# Altium schematic symbol library TestKitSchLib.SchLib: 7 symbols
Pins are listed as number, name and electrical type; pins without a type are passive.

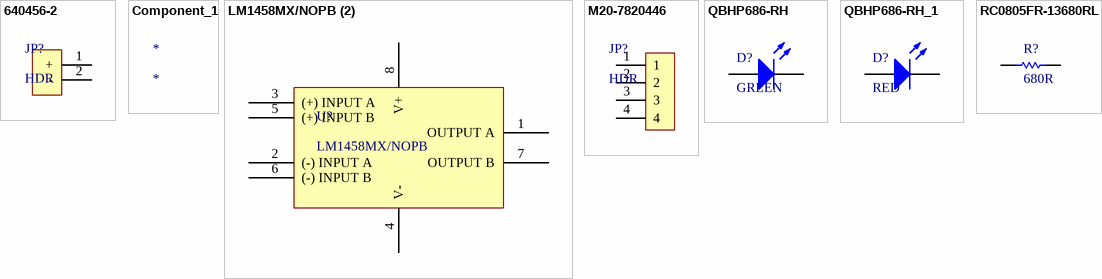
[diagram p0: symbols 640456-2 to RC0805FR-13680RL]

## 640456-2
designator JP?, comment HDR
Connector 250V AC/DC 5A 2P 1 Row PCB - Vertical Mounting Polyester White; Manufacturer 1: TE Connectivity; Manufacturer Part Number 1: 640456-2; Number of Contacts: 2; Gender: Male; Connector Type: Connector,Pin,Plug,Header; Contact Resistance: 6mR; Mating Alignment: No (Without); PCB Mount Retention: Without; Mating Connector Lock: Yes (With); Connector System: Wire-to-Board; Circuit Application: Signal; Contact Style: Straight; Pitch: 2.54mm; Contact Post Length: 3.56mm; PCB Thickness: 0.063inch; Tail Length: 0.14inch; Plating Thickness: 3.81um; Approvals: CSA; Supplier 1: Digi-Key; Stock 1: 94059; Pricing 1: 1=0,13000, 10=0,10100, 100=0,07480, 500=0,06188, 1000=0,05415, 5000=0,04641, 10000=0,04512 (USD); RoHS: Yes; Mount: Through Hole; Contact Plating: Tin; Contact Material: Copper Alloy; Housing Material: Polyester; Color: Natural,White,Beige; Housing Color: Natural; Contact Shape: Square; Min Operating Temperature: -67°C; Max Operating Temperature: 221°C; Orientation: Straight; Number of Rows: 1; Packaging: Bulk; Termination: Solder; Number of Positions: 2; Package Quantity: 5000; Series: MTA-100; Contact Type: Male Pin; Current Rating: 5A; Contact Gender: Male; Max Voltage Rating (AC): 250V; Voltage Rating: 250V; PCB Mounting Orientation: Vertical; Contact Current Rating: 5A; Fastening Type: Friction; Voltage Rating (AC): 250V; Strain Relief: No (Without); Working Voltage: 250V; Mating Retention: No (Without); PCB Mount Alignment: No (Without); Shrouded: No (Without); Number of Poles: 2; Backwall/Post Interruptions: No (Without); Contact Retention: No (Without); Panel Mount Retention: No (Without); Sealable: No (Without); Mounting Ears: No (Without); Length: 7.62mm; Height: 7.87mm; Contact Mating Length: 7.49mm; Depth: 5.72mm; Lead Pitch: 2.54mm; Radiation Hardening: No; RoHS Compliant: Yes; REACH SVHC: No SVHC; Lead Free: Lead Free; Flammability Rating: UL94 V-0; ELV: Compliant; ComponentLink1URL: https://datasheet.ciiva.com/709/eng-cd-640456-w1-709680.pdf?src-supplier=Digi-Key; ComponentLink1Description: https://datasheet.ciiva.com/709/eng-cd-640456-w1-709680.pdf?src-supplier=Digi-Key; ComponentLink2URL: https://datasheet.ciiva.com/3118/eng-ds-82056-mta-0608-3118497.pdf?src-supplier=Avnet; ComponentLink2Description: https://datasheet.ciiva.com/3118/eng-ds-82056-mta-0608-3118497.pdf?src-supplier=Avnet; ComponentLink3URL: https://datasheet.ciiva.com/25617/0900766b80027008-25617244.pdf?src-supplier=RSComponents; ComponentLink3Description: https://datasheet.ciiva.com/25617/0900766b80027008-25617244.pdf?src-supplier=RSComponents; ComponentLink4URL: https://datasheet.ciiva.com/14156/04384301-14156820.pdf?src-supplier=Distrelec; ComponentLink4Description: https://datasheet.ciiva.com/14156/04384301-14156820.pdf?src-supplier=Distrelec; ComponentLink5URL: https://datasheet.ciiva.com/11746/0900766b80eb7fdd-11746365.pdf?src-supplier=RSComponents; ComponentLink5Description: https://datasheet.ciiva.com/11746/0900766b80eb7fdd-11746365.pdf?src-supplier=RSComponents; ComponentLink6URL: https://datasheet.ciiva.com/16401/eng-ds-82056-mta-0608-16401289.pdf?src-supplier=Future+Electronics; ComponentLink6Description: https://datasheet.ciiva.com/16401/eng-ds-82056-mta-0608-16401289.pdf?src-supplier=Future+Electronics; ComponentLink7URL: https://datasheet.ciiva.com/7128/1866390-7128742.pdf?src-supplier=Newark; ComponentLink7Description: https://datasheet.ciiva.com/7128/1866390-7128742.pdf?src-supplier=Newark; ComponentLink8URL: https://datasheet.ciiva.com/16505/eng-ds-82056-mta-0608-16505419.pdf?src-supplier=Avnet+Asia; ComponentLink8Description: https://datasheet.ciiva.com/16505/eng-ds-82056-mta-0608-16505419.pdf?src-supplier=Avnet+Asia; Supplier Part Number 1: A1921-ND
footprint HDR_MALE_2X1_2.54
footprint HDR_MALE_2X1_2.54
pins: 1 +, 2 -

## Component_1
designator *

## LM1458MX/NOPB (2)
designator U?, comment LM1458MX/NOPB
Dual 36V general-purpose operational amplifier 8-SOIC 0 to 70; Manufacturer 1: TI National Semiconductor; Gain Bandwidth Product: 1MHz; Slew Rate: 0.5V/µs; Common Mode Rejection Ratio: 70dB; Number of Channels: 2; Min Dual Supply Voltage: 3V; Output Current: 45mA; Max Supply Voltage: 18V; Nominal Supply Current: 3mA; Input Offset Voltage (Vos): 6mV; Input Bias Current: 800nA; Voltage Gain: 104.08dB; Power Dissipation: 500mW; Power Supply Rejection Ratio (PSRR): 77dB; Max Power Dissipation: 400mW; Amplifier Type: GENERAL PURPOSE; Supplier 1: Digi-Key; Stock 1: 4409; Pricing 1: 1=1,24000, 10=1,10700, 25=1,05080, 100=0,86310, 250=0,80676, 500=0,71296, 1000=0,61950 (USD); RoHS: Yes; Mount: Surface Mount; Case/Package: SOIC; Number of Pins: 8; Contact Plating: Tin; Min Operating Temperature: 0°C; Max Operating Temperature: 70°C; Bandwidth: 1MHz; Packaging: Tape and Reel; Number of Circuits: 2; Package Quantity: 2500; Max Dual Supply Voltage: 18V; Unity Gain Bandwidth Product: 1MHz; Operating Supply Current: 3mA; Number of Amplifiers: 2; Number of Elements: 2; Technology: BIPOLAR; Radiation Hardening: No; REACH SVHC: No SVHC; Lead Free: Lead Free; RoHS Compliant: Yes; ComponentLink1URL: https://datasheet.ciiva.com/26846/lm1458mx-nopb-26846585.pdf?src-supplier=IIIC; ComponentLink1Description: https://datasheet.ciiva.com/26846/lm1458mx-nopb-26846585.pdf?src-supplier=IIIC; ComponentLink2URL: https://datasheet.ciiva.com/6631/lm1458-6631087.pdf?src-supplier=Digi-Key; ComponentLink2Description: https://datasheet.ciiva.com/6631/lm1458-6631087.pdf?src-supplier=Digi-Key; ComponentLink3URL: https://datasheet.ciiva.com/6631/lm1458-6631085.pdf?src-supplier=Digi-Key; ComponentLink3Description: https://datasheet.ciiva.com/6631/lm1458-6631085.pdf?src-supplier=Digi-Key; Manufacturer Part Number 1: LM1458MX/NOPB; Supplier Part Number 1: LM1458MX/NOPBCT-ND
footprint SOIC8
pins: 1 OUTPUT A, 2 (-) INPUT A, 3 (+) INPUT A, 4 V-, 5 (+) INPUT B, 6 (-) INPUT B, 7 OUTPUT B, 8 V+

## M20-7820446
designator JP?, comment HDR
2.54mm (0.1") Pitch SIL Vertical PC Tail Socket Assembly, tin, 4 contacts; Manufacturer 1: Harwin; Manufacturer Part Number 1: M20-7820446; Number of Contacts: 4; Max Current Rating: 3A; Contact Resistance: 20mR; Mating Cycles: 50; Connector Type: Receptacle; Insulation Resistance: 1MR; Hole Diameter: 0.8mm; Supplier 1: Digi-Key; Stock 1: 3184; Pricing 1: 1=0,86000, 54=0,68593, 108=0,65602, 486=0,53677, 972=0,47712, 4914=0,41748, 9828=0,39760 (USD); RoHS: Yes; Mount: Through Hole; Case/Package: SIL; Contact Plating: Tin; Contact Material: Bronze; Color: Black; Housing Color: Black; Housing Material: Polyamide; Min Operating Temperature: -40°C; Max Operating Temperature: 105°C; Number of Rows: 1; Termination: Solder; Packaging: Rail/Tube; Package Quantity: 56; Contact Gender: Female; Current Rating: 3A; Number of Positions: 4; Gender: Receptacle; Orientation: Straight; Series: M20; Contact Type: Female Socket; Length: 10.56mm; Pitch: 2.54mm; Lead Pitch: 2.54mm; Depth: 2.5mm; REACH SVHC: No SVHC; RoHS Compliant: Yes; ComponentLink1URL: https://datasheet.ciiva.com/11747/0900766b80dc1d2b-11747084.pdf?src-supplier=RSComponents; ComponentLink1Description: https://datasheet.ciiva.com/11747/0900766b80dc1d2b-11747084.pdf?src-supplier=RSComponents; ComponentLink2URL: https://datasheet.ciiva.com/16657/m20-782-16657321.pdf?src-supplier=Avnet+Europe; ComponentLink2Description: https://datasheet.ciiva.com/16657/m20-782-16657321.pdf?src-supplier=Avnet+Europe; ComponentLink3URL: https://datasheet.ciiva.com/7639/1836950-7639727.pdf?src-supplier=Element14; ComponentLink3Description: https://datasheet.ciiva.com/7639/1836950-7639727.pdf?src-supplier=Element14; ComponentLink4URL: https://datasheet.ciiva.com/6784/m20-782-6784360.pdf?src-supplier=Digi-Key; ComponentLink4Description: https://datasheet.ciiva.com/6784/m20-782-6784360.pdf?src-supplier=Digi-Key; ComponentLink5URL: https://datasheet.ciiva.com/10151/m20-782-10151359.pdf?src-supplier=Avnet; ComponentLink5Description: https://datasheet.ciiva.com/10151/m20-782-10151359.pdf?src-supplier=Avnet; Supplier Part Number 1: 952-1792-ND
footprint Hdr_Famela_1x4_2.54mm
pins: 1, 2, 3, 4

## QBHP686-RH
designator D?, comment GREEN
LED Uni-Color Green Automotive 2-Pin T/R; Manufacturer 1: QT-Brightek; Manufacturer Part Number 1: QBHP686-RH; Color: Red; Lens Color: Colorless; Lens Style: Flat; Lens Transparency: Clear; Forward Voltage: 2.4V; Test Current: 150mA; Viewing Angle: 120°; Dominant Wavelength: 620nm; Supplier 1: Digi-Key; Stock 1: 2880; Pricing 1: 1=0,85000, 10=0,55300, 100=0,36250, 1000=0,28620 (USD); RoHS: No; Mount: Surface Mount; Case/Package: 1113; Case Code (Imperial): 1113; Packaging: Tape and Reel; Length: 3.1mm; Width: 2.8mm; Height: 1mm; ComponentLink1URL: http://www.qt-brightek.com/datasheet/QBHP686-XXH Series.pdf?src-supplier=Digi-Key; ComponentLink1Description: http://www.qt-brightek.com/datasheet/QBHP686-XXH Series.pdf?src-supplier=Digi-Key; Supplier Part Number 1: 1516-1369-1-ND
footprint 2835_LED_GREEN
pins: 1 A, 2 K

## QBHP686-RH_1
designator D?, comment RED
LED Uni-Color Red Automotive 2-Pin T/R; Manufacturer 1: QT-Brightek; Manufacturer Part Number 1: QBHP686-RH; Lens Color: Colorless; Lens Style: Flat; Lens Transparency: Clear; Forward Voltage: 2.4V; Test Current: 150mA; Viewing Angle: 120°; Dominant Wavelength: 620nm; Supplier 1: Digi-Key; Stock 1: 2880; Pricing 1: 1=0,85000, 10=0,55300, 100=0,36250, 1000=0,28620 (USD); RoHS: No; Mount: Surface Mount; Case/Package: 1113; Color: Red; Case Code (Imperial): 1113; Packaging: Tape and Reel; Length: 3.1mm; Width: 2.8mm; Height: 1mm; ComponentLink1URL: http://www.qt-brightek.com/datasheet/QBHP686-XXH Series.pdf?src-supplier=Digi-Key; ComponentLink1Description: http://www.qt-brightek.com/datasheet/QBHP686-XXH Series.pdf?src-supplier=Digi-Key; Supplier Part Number 1: 1516-1369-1-ND
footprint 2835_LED_RED
pins: 1 A, 2 K

## RC0805FR-13680RL
designator R?, comment 680R
Surface Mount Thick Film Chip Resistors; Manufacturer 1: Yageo; Manufacturer Part Number 1: RC0805FR-13680RL; Tolerance: 1%; Temperature Coefficient: 100ppm/°C; Power Rating: 125mW; Voltage Rating: 150V; Supplier 1: Digi-Key; Stock 1: 19000; Pricing 1: 1=0,10000, 10=0,04200, 100=0,01690, 1000=0,00759, 2500=0,00659, 5000=0,00544 (USD); RoHS: Yes; Case/Package: 0805; Contact Plating: Tin,Matte; Case Code (Imperial): 0805; Case Code (Metric): 2012; Min Operating Temperature: -55°C; Max Operating Temperature: 155°C; Resistance: 680R; Resistor Type: Thick Film; Packaging: Tape and Reel; Termination: SMD/SMT; Series: RC; Length: 2mm; Width: 1.25mm; Height: 0.5mm; Radiation Hardening: No; RoHS Compliant: Yes; ComponentLink1URL: http://www.mouser.com/ds/2/447/Yageo_08112016_RC0805-968729.pdf?src-supplier=Mouser; ComponentLink1Description: http://www.mouser.com/ds/2/447/Yageo_08112016_RC0805-968729.pdf?src-supplier=Mouser; ComponentLink2URL: http://www.yageo.com/documents/recent/PYu-RC_Group_51_RoHS_L_2.pdf?src-supplier=Avnet; ComponentLink2Description: http://www.yageo.com/documents/recent/PYu-RC_Group_51_RoHS_L_2.pdf?src-supplier=Avnet; Supplier Part Number 1: 13-RC0805FR-13680RLCT-ND
footprint R0805
pins: 1, 2